# Altium schematic symbol library PTB0143-2010BPA103.SchLib: 1 symbol
Pins are listed as number, name and electrical type; pins without a type are passive.

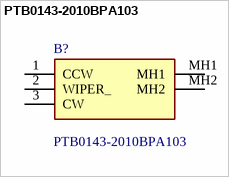
[diagram p0: symbol PTB0143-2010BPA103]

## PTB0143-2010BPA103
designator B?
10 kOhms 0.25W, 1/4W Through Hole Slide Potentiometer Top Adjustment Type; Manufacturer_Name: Bourns; Geometry.Height: 18mm; Mouser Part Number: 652-PTB1432010BPA103; Mouser Price/Stock: https://www.mouser.co.uk/ProductDetail/Bourns/PTB0143-2010BPA103?qs=h2IHEVivlqBK9DJYgx59Pg%3D%3D; Manufacturer_Part_Number: PTB0143-2010BPA103; Datasheet Link: https://www.bourns.com/docs/product-datasheets/ptb.pdf
footprint PTB01432010BPA103
pins: 1 CCW, 2 WIPER_, 3 CW, MH1, MH2